# Altium footprint library TRACK_WIDTHS.PcbLib: 1 footprints
Each footprint in its own frame and in the unit in brackets; x right, y up, seen from the top. Pads: shape width x height; smd on the part's side, far side on the other; paste and mask are expansions set on the pad; w line width, h text height; cw(c..) or ccw(c..) is an arc to the next point about the centre after c.
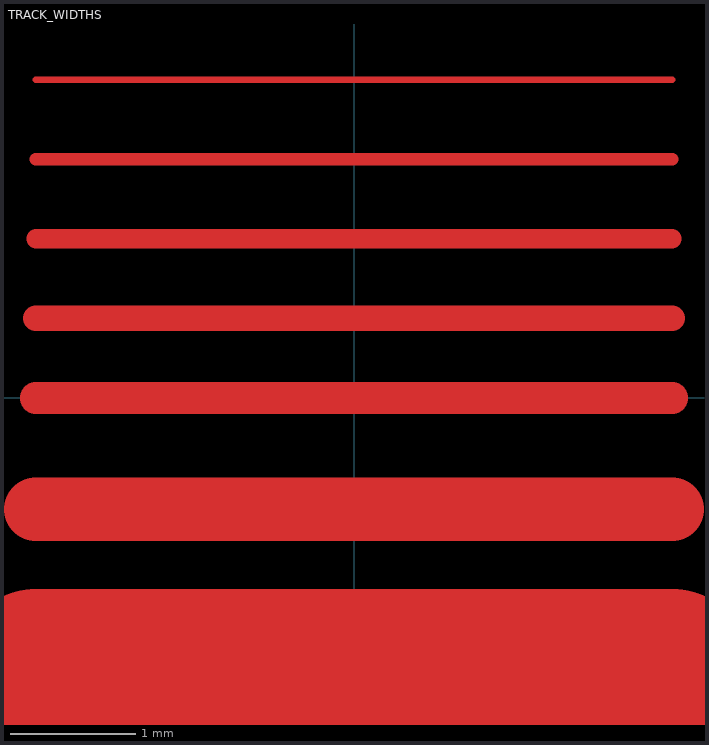
[diagram p0: the footprint, top view; thin cyan lines are the x and y axes]

## TRACK_WIDTHS [mm] "Tracks with various widths (2-50 mils)"
Top Layer:
  lines w0.051: -2.54,2.54 2.54,2.54
  lines w0.102: -2.54,1.905 2.54,1.905
  lines w0.152: -2.54,1.27 2.54,1.27
  lines w0.203: -2.54,0.635 2.54,0.635
  lines w0.254: -2.54,0 2.54,0
  lines w0.508: -2.54,-0.889 2.54,-0.889
  lines w1.27: -2.54,-2.159 2.54,-2.159